# Altium schematic symbol library Sensors Magnetic.SchLib: 1 symbol
Pins are listed as number, name and electrical type; pins without a type are passive.

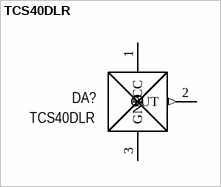
[diagram p0: symbol TCS40DLR]

## TCS40DLR
designator DA?
Magnetic Sensor Digital Output; Manufacturer: TOSHIBA; Group: Sensors; Package: SOT-23F; Part name: TCS40DLR
footprint SOT-23FM
pins: 1 VCC (power), 2 OUT (out), 3 GND